# Altium schematic symbol library VN820SP.SchLib: 1 symbol
Pins are listed as number, name and electrical type; pins without a type are passive.

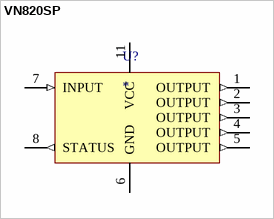
[diagram p0: symbol VN820SP]

## VN820SP
designator U?
pins: 1 OUTPUT (out), 2 OUTPUT (out), 3 OUTPUT (out), 4 OUTPUT (out), 5 OUTPUT (out), 6 GND (power), 7 INPUT (in), 8 STATUS (out), 11 VCC (power)